# Altium footprint library SODIMM_Module.PcbLib: 1 footprints
Each footprint in its own frame and in the unit in brackets; x right, y up, seen from the top. Pads: shape width x height; smd on the part's side, far side on the other; paste and mask are expansions set on the pad; w line width, h text height; cw(c..) or ccw(c..) is an arc to the next point about the centre after c.
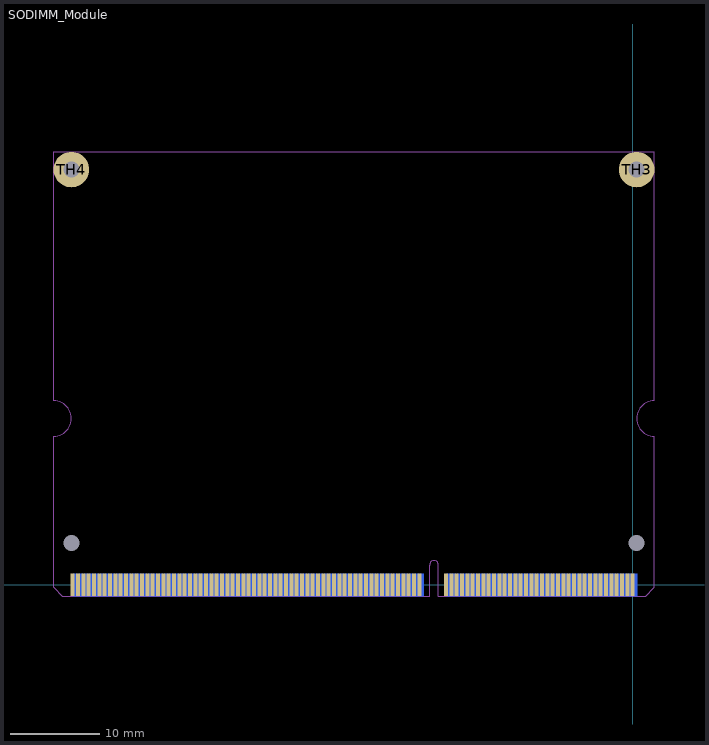
[diagram p0: the footprint, top view; thin cyan lines are the x and y axes]

## SODIMM_Module [mm]
pads (208):
  rect 0.45x2.55 smd far side: 1(0.3,0) 3(-0.3,0) 5(-0.9,0) 7(-1.5,0) 9(-2.1,0) 11(-2.7,0) 13(-3.3,0) 15(-3.9,0) 17(-4.5,0) 19(-5.1,0) 21(-5.7,0) 23(-6.3,0) 25(-6.9,0) 27(-7.5,0) 29(-8.1,0) 31(-8.7,0) 33(-9.3,0) 35(-9.9,0) 37(-10.5,0) 39(-11.1,0) 41(-11.7,0) 43(-12.3,0) 45(-12.9,0) 47(-13.5,0) 49(-14.1,0) 51(-14.7,0) 53(-15.3,0) 55(-15.9,0) 57(-16.5,0) 59(-17.1,0) 61(-17.7,0) 63(-18.3,0) 65(-18.9,0) 67(-19.5,0) 69(-20.1,0) 71(-20.7,0) 73(-23.7,0) 75(-24.3,0) 77(-24.9,0) 79(-25.5,0) 81(-26.1,0) 83(-26.7,0) 85(-27.3,0) 87(-27.9,0) 89(-28.5,0) 91(-29.1,0) 93(-29.7,0) 95(-30.3,0) 97(-30.9,0) 99(-31.5,0) 101(-32.1,0) 103(-32.7,0) 105(-33.3,0) 107(-33.9,0) 109(-34.5,0) 111(-35.1,0) 113(-35.7,0) 115(-36.3,0) 117(-36.9,0) 119(-37.5,0) 121(-38.1,0) 123(-38.7,0) 125(-39.3,0) 127(-39.9,0) 129(-40.5,0) 131(-41.1,0) 133(-41.7,0) 135(-42.3,0) 137(-42.9,0) 139(-43.5,0) 141(-44.1,0) 143(-44.7,0) 145(-45.3,0) 147(-45.9,0) 149(-46.5,0) 151(-47.1,0) 153(-47.7,0) 155(-48.3,0) 157(-48.9,0) 159(-49.5,0) 161(-50.1,0) 163(-50.7,0) 165(-51.3,0) 167(-51.9,0) 169(-52.5,0) 171(-53.1,0) 173(-53.7,0) 175(-54.3,0) 177(-54.9,0) 179(-55.5,0) 181(-56.1,0) 183(-56.7,0) 185(-57.3,0) 187(-57.9,0) 189(-58.5,0) 191(-59.1,0) 193(-59.7,0) 195(-60.3,0) 197(-60.9,0) 199(-61.5,0) 201(-62.1,0) 203(-62.7,0)
  rect 0.45x2.55 smd: 2(0,0) 4(-0.6,0) 6(-1.2,0) 8(-1.8,0) 10(-2.4,0) 12(-3,0) 14(-3.6,0) 16(-4.2,0) 18(-4.8,0) 20(-5.4,0) 22(-6,0) 24(-6.6,0) 26(-7.2,0) 28(-7.8,0) 30(-8.4,0) 32(-9,0) 34(-9.6,0) 36(-10.2,0) 38(-10.8,0) 40(-11.4,0) 42(-12,0) 44(-12.6,0) 46(-13.2,0) 48(-13.8,0) 50(-14.4,0) 52(-15,0) 54(-15.6,0) 56(-16.2,0) 58(-16.8,0) 60(-17.4,0) 62(-18,0) 64(-18.6,0) 66(-19.2,0) 68(-19.8,0) 70(-20.4,0) 72(-21,0) 74(-24,0) 76(-24.6,0) 78(-25.2,0) 80(-25.8,0) 82(-26.4,0) 84(-27,0) 86(-27.6,0) 88(-28.2,0) 90(-28.8,0) 92(-29.4,0) 94(-30,0) 96(-30.6,0) 98(-31.2,0) 100(-31.8,0) 102(-32.4,0) 104(-33,0) 106(-33.6,0) 108(-34.2,0) 110(-34.8,0) 112(-35.4,0) 114(-36,0) 116(-36.6,0) 118(-37.2,0) 120(-37.8,0) 122(-38.4,0) 124(-39,0) 126(-39.6,0) 128(-40.2,0) 130(-40.8,0) 132(-41.4,0) 134(-42,0) 136(-42.6,0) 138(-43.2,0) 140(-43.8,0) 142(-44.4,0) 144(-45,0) 146(-45.6,0) 148(-46.2,0) 150(-46.8,0) 152(-47.4,0) 154(-48,0) 156(-48.6,0) 158(-49.2,0) 160(-49.8,0) 162(-50.4,0) 164(-51,0) 166(-51.6,0) 168(-52.2,0) 170(-52.8,0) 172(-53.4,0) 174(-54,0) 176(-54.6,0) 178(-55.2,0) 180(-55.8,0) 182(-56.4,0) 184(-57,0) 186(-57.6,0) 188(-58.2,0) 190(-58.8,0) 192(-59.4,0) 194(-60,0) 196(-60.6,0) 198(-61.2,0) 200(-61.8,0) 202(-62.4,0) 204(-63,0)
  round 0 hole 1.8 unplated: TH1(0.45,4.725) TH2(-63.15,4.725)
  round 4 hole 1.8: TH3(0.45,46.725) TH4(-63.15,46.725)
Top Paste:
  rectangle: -65.151,-1.27 2.413,1.27
Bottom Paste:
  rectangle: -65.151,-1.27 2.413,1.27
Mechanical 1:
  lines w0.05: -63.15,18.725 ccw(c-65.15,18.725) -65.15,20.725 -65.15,48.725 2.45,48.725 2.45,20.725 ccw(c2.45,18.725) 0.45,18.725 ; -63.15,18.725 cw(c-65.15,18.725) -65.15,16.725 -65.15,-0.275 -64.15,-1.275 -22.85,-1.275 -22.85,2.225 ; -63.15,18.725 -63.15,18.725 ; -22.85,2.225 cw(c-22.35,2.225) -22.35,2.725 cw(c-22.35,2.225) -21.85,2.225 -21.85,-1.275 1.45,-1.275 2.45,-0.275 2.45,16.725 cw(c2.45,18.725) 0.45,18.725 ; -22.85,2.225 -22.85,2.225 ; 0.45,18.725 0.45,18.725